# EAGLE library part MOLEX_IGRID_10X2CONNECTOR (library HFS4011sCustom)
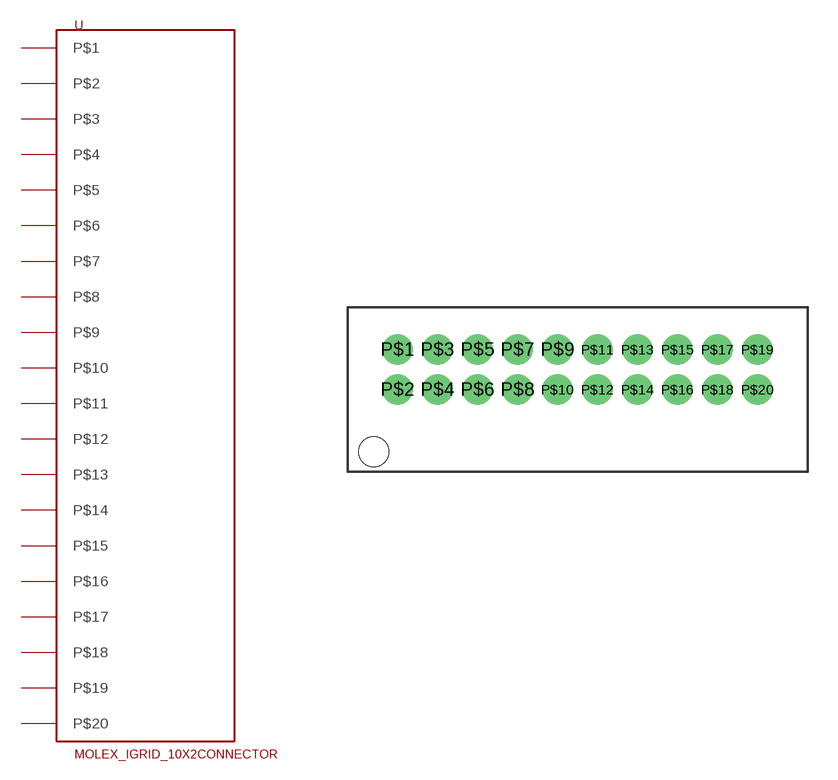
[diagram p3: symbol with the pads of MOLEX_IGRID10X2CONNECTOR; footprint MOLEX_IGRID10X2CONNECTOR]

Designator prefix U

## MOLEX_IGRID_10X2CONNECTOR  [MOLEX_IGRID10X2CONNECTOR]
P$1  P$1
P$2  P$2
P$3  P$3
P$4  P$4
P$5  P$5
P$6  P$6
P$7  P$7
P$8  P$8
P$9  P$9
P$10  P$10
P$11  P$11
P$12  P$12
P$13  P$13
P$14  P$14
P$15  P$15
P$16  P$16
P$17  P$17
P$18  P$18
P$19  P$19
P$20  P$20

## Footprint MOLEX_IGRID10X2CONNECTOR (pad centres in mm)
drill 1 pad 1.422: P$1 -19,1; P$2 -19,-1; P$3 -17,1; P$4 -17,-1; P$5 -15,1; P$6 -15,-1; P$7 -13,1; P$8 -13,-1; P$9 -11,1; P$10 -11,-1; P$11 -9,1; P$12 -9,-1; P$13 -7,1; P$14 -7,-1; P$15 -5,1; P$16 -5,-1; P$17 -3,1; P$18 -3,-1; P$19 -1,1; P$20 -1,-1
hole 1.5 at -20.2,-4.1